# Altium schematic symbol library CON-3.Schlib: 1 symbol
Pins are listed as number, name and electrical type; pins without a type are passive.

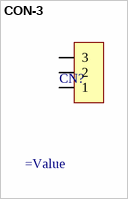
[diagram p0: symbol CON-3]

## CON-3
designator CN?
=Description
pins: 1, 2, 3